# Altium schematic symbol library condensateur_pol.SchLib: 1 symbol
Pins are listed as number, name and electrical type; pins without a type are passive.

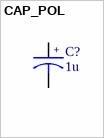
[diagram p0: symbol CAP_POL]

## CAP_POL
designator C?  value 1u
capacité polarisée
footprint 293D/B
footprint 293D/D
footprint 293D/A
footprint 293D/C
footprint RB.2/.2
footprint RB.2/.4
footprint RB.3/.6
footprint RB.4/.8
footprint RB.1/.2
footprint POLAR0.6
footprint POLAR0.8
footprint POLAR1.0
footprint POLAR1.2
simulation model Model Name (Model Description)
footprint POLAR1.4
footprint RB.4/1.0
footprint ALS40-H
footprint H22/42 (montage horizontal)
footprint RB.3/.75
footprint 0606_vishay
pins: 1, 2
text: +